# EAGLE library part IGT60R070D1ATMA1 (library IGT60R070D1ATMA1)
Gallium nitride CoolGaN 600V e-mode power transistor IGT60R070D1 for ultimate efficiency and reliability Source: Datasheet <https://www.infineon.com/part/IGT60R070D1>
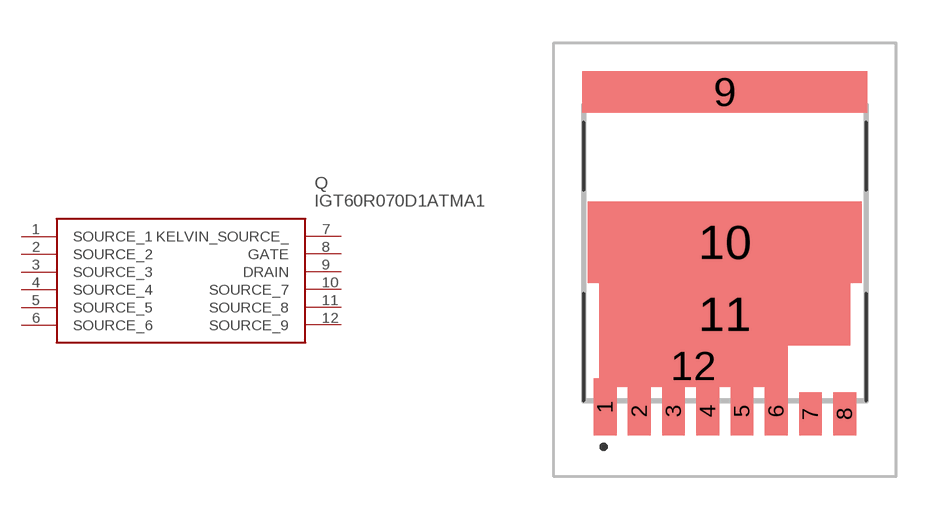
[diagram p0: symbol with the pads of IGT60R070D1ATMA1; footprint IGT60R070D1ATMA1]

Designator prefix Q

## IGT60R070D1ATMA1 (Arrow_Part_Number: IGT60R070D1ATMA1; Arrow_Price-Stock: https://www.arrow.com/en/products/igt60r070d1atma1/infineon-technologies-ag?region=nac; Description: Gallium nitride CoolGaN 600V e-mode power transistor IGT60R070D1 for ultimate efficiency and reliability; Height: 2.3mm; Manufacturer_Name: Infineon; Manufacturer_Part_Number: IGT60R070D1ATMA1; Mouser_Part_Number: 726-IGT60R070D1ATMA1; Mouser_Price-Stock: https://www.mouser.co.uk/ProductDetail/Infineon-Technologies/IGT60R070D1ATMA1?qs=qSfuJ%252Bfl%2Fd6UBZbKTxAvTA%3D%3D)  [IGT60R070D1ATMA1]
1  SOURCE_1
2  SOURCE_2
3  SOURCE_3
4  SOURCE_4
5  SOURCE_5
6  SOURCE_6
7  KELVIN_SOURCE_
8  GATE
9  DRAIN
10  SOURCE_7
11  SOURCE_8
12  SOURCE_9

## Footprint IGT60R070D1ATMA1 (pad centres in mm)
IGT60R070D1ATMA1-3
smd 0.8 x 2: 1 -4.2,-5.39
smd 0.8 x 1.7: 2 -3,-5.54; 3 -1.8,-5.54; 4 -0.6,-5.54; 5 0.6,-5.54; 6 1.8,-5.54
smd 0.8 x 1.5: 7 3,-5.64; 8 4.2,-5.64
smd 10 x 1.45: 9 0,5.66
smd 9.6 x 2.85: 10 0,0.385
smd 8.8 x 2.2: 11 0,-2.14
smd 6.6 x 1.45: 12 -1.1,-3.965